# Altium schematic symbol library Complicated.SchLib: 11 symbols
Pins are listed as number, name and electrical type; pins without a type are passive.

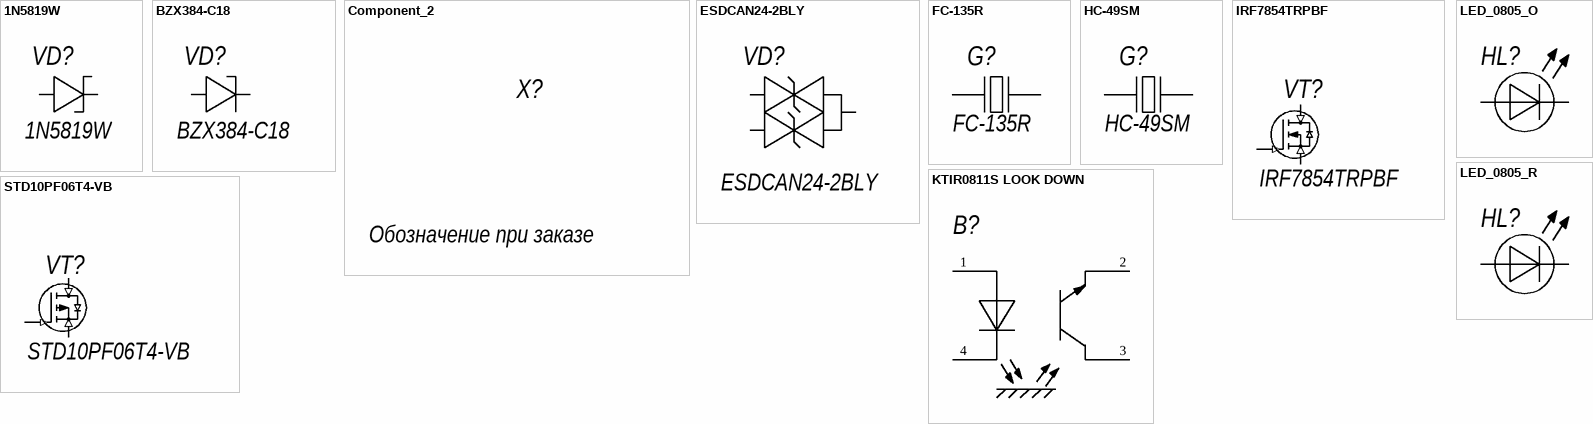
[diagram p0: symbols 1N5819W to STD10PF06T4-VB]

## 1N5819W
designator VD?
Диод Шоттки, 40 В, 0.35 А, SOD-123; Unit_of_measurement: Ом; Value: *; ComponentLink1Description: New link; ComponentLink1URL: *
footprint SOD-123 (SOD-123, 2-Leads, Body 1,60x3,75mm, IPC Medium Density)
pins: 1, 2

## BZX384-C18
designator VD?
Стабилитрон 18В 0.3Вт [SOD-323]; Unit_of_measurement: Ом; Value: *; ComponentLink1Description: New link; ComponentLink1URL: *
footprint SOD-323
pins: 1, 2

## Component_2
designator X?, comment Обозначение при заказе
Описание свойств компонента

## ESDCAN24-2BLY
designator VD?
Устройство защиты CAN шины от ESD, 2 защитных диода [SOT-23-3]; Unit_of_measurement: Ом; Value: *; ComponentLink1Description: New link; ComponentLink1URL: *
footprint SOT23 (SOT23, 3-Leads, Body 2,90x2,45mm, Pitch 0,95mm, IPC Medium Density)
pins: 1, 2, 3

## FC-135R
designator G?
Кварцевый резонатор 32,768 кГц; SMD; ComponentLink1Description: Datasheet; ComponentLink1URL: C:\GitHub\OvcharkaBoard\Datasheets\Components
footprint FC-135R
pins: 1 "Информационный вход Х6", 2 "Информационный вход Х6"

## HC-49SM
designator G?
Кварцевый резонатор 8 МГц; SMD; ComponentLink1Description: Datasheet; ComponentLink1URL: C:\GitHub\OvcharkaBoard\Datasheets\Components
footprint HC-49SM
pins: 1 "Информационный вход Х6", 2 "Информационный вход Х6"

## IRF7854TRPBF
designator VT?
Транзистор, HEXFET, N-канал, 80В, 10А [SOIC-8]
footprint SOP-8 WithoutTP; pin to pad 1>4 2>1+2+3 3>5+6+7+8
pins: 1 (in) "Информационный вход Х6", 2 (in) "Информационный вход Х6", 3 (in) "Информационный вход Х6"

## KTIR0811S LOOK DOWN
designator B?, comment 3  (value not drawn)
KTIR0811S, Оптический датчик на отражение 940нМ; Unit_of_measurement: Ом; Value: *; ComponentLink1Description: New link; ComponentLink1URL: *
footprint KTIR0811S look Down
pins: 1, 2, 3, 4

## LED_0805_O
designator HL?, comment 3  (value not drawn)
Светодиод оранжевый SMD 0805=2x1.3мм, 70мКд, 130°, 625нм (Orange); №7339 o СД SMD02013C2\оран\ 70\130\пр\FYLS-0805UEC\; Unit_of_measurement: Ом; Value: *; ComponentLink1Description: New link; ComponentLink1URL: *
footprint LED_0805
pins: A 2, C 1

## LED_0805_R
designator HL?, comment 3  (value not drawn)
Светодиод SMD 0805=2x1.3мм, красный, 28мкд, 130град, прозрачная линза; Q-15575B СД SMD02013C2\кр\ 28,5\130\пр\FYLS- 0805HD\FORYARD; Unit_of_measurement: Ом; Value: *; ComponentLink1Description: New link; ComponentLink1URL: *
footprint LED_0805
pins: A 2, C 1

## STD10PF06T4-VB
designator VT?
Транзистор P-MOSFET 60В 30А 34Вт [D-PAK]
footprint DPAK_TO252 (D-PAK, 3-Pads, Body 6,21x6,76mm (max), IPC Medium Density)
pins: 1 G (in) "Информационный вход Х6", 3 S (in) "Информационный вход Х6", 4 D (in) "Информационный вход Х6"